# Altium footprint library LABLIB.PcbLib: 35 footprints (part 3 of 3)
Each footprint in its own frame and in the unit in brackets; x right, y up, seen from the top. Pads: shape width x height; smd on the part's side, far side on the other; paste and mask are expansions set on the pad; w line width, h text height; cw(c..) or ccw(c..) is an arc to the next point about the centre after c.
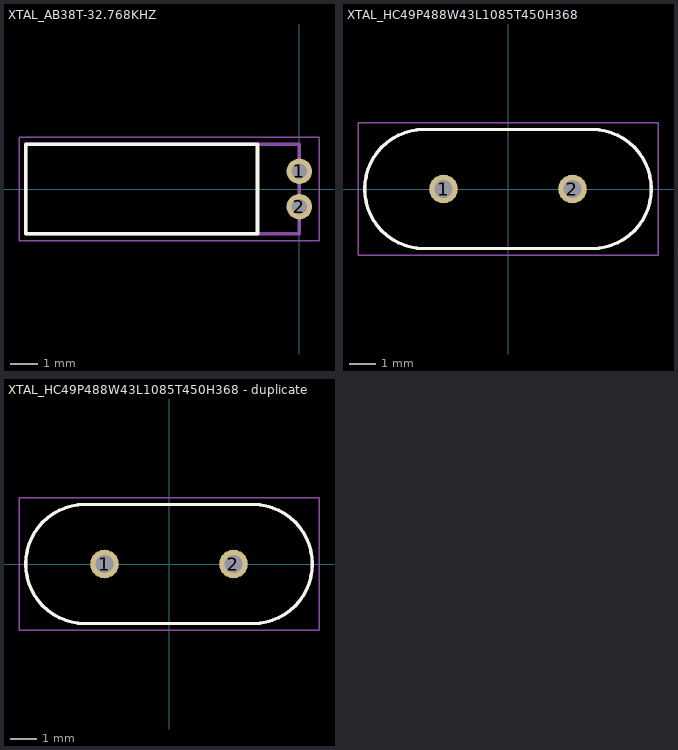
[diagram p2: the footprints below, top view; thin cyan lines are the x and y axes]

## XTAL_AB38T-32.768KHZ [mm]
height 3.2
pads (2):
  round 0.91 hole 0.56: 1(0,0.635) 2(0,-0.635)
Top Overlay:
  lines w0.127: -9.8,-1.6 -1.5,-1.6 -1.5,1.6 -9.8,1.6 -9.8,-1.6
Mechanical 13:
  lines w0.127: -9.8,-1.6 0,-1.6 0,1.6 -9.8,1.6 -9.8,-1.6
Mechanical 15:
  lines w0.05: -10.05,-1.85 0.705,-1.85 0.705,1.85 -10.05,1.85 -10.05,-1.85
3D body "step_temp.STEP": height 8.3, standoff -9, extent -1.6,-1.588 1.6,1.588

## XTAL_HC49P488W43L1085T450H368 [mm]
height 3.68
pads (2):
  round 1.08 hole 0.68: 1(-2.44,0) 2(2.44,0)
Top Overlay:
  lines w0.127: -5.425,0 ccw(c-3.175,0) -3.175,-2.25 3.175,-2.25 ccw(c3.175,0) 5.425,0 ccw(c3.175,0) 3.175,2.25 -3.175,2.25 ccw(c-3.175,0) -5.425,0
Mechanical 13:
  lines w0.127: -5.425,0 ccw(c-3.175,0) -3.175,-2.25 3.175,-2.25 ccw(c3.175,0) 5.425,0 ccw(c3.175,0) 3.175,2.25 -3.175,2.25 ccw(c-3.175,0) -5.425,0
Mechanical 15:
  lines w0.05: -5.675,-2.5 5.675,-2.5 5.675,2.5 -5.675,2.5 -5.675,-2.5
3D body "step_temp.STEP": height 3.68, standoff -12.7, extent -5.425,-2.25 5.425,2.25

## XTAL_HC49P488W43L1085T450H368 - duplicate [mm]
height 3.68
pads (2):
  round 1.08 hole 0.68: 1(-2.44,0) 2(2.44,0)
Top Overlay:
  lines w0.127: -5.425,0 cw(c-3.175,0) -3.175,2.25 3.175,2.25 cw(c3.175,0) 5.425,0 cw(c3.175,0) 3.175,-2.25 -3.175,-2.25 cw(c-3.175,0) -5.425,0
Mechanical 13:
  lines w0.127: -5.425,0 cw(c-3.175,0) -3.175,2.25 3.175,2.25 cw(c3.175,0) 5.425,0 cw(c3.175,0) 3.175,-2.25 -3.175,-2.25 cw(c-3.175,0) -5.425,0
Mechanical 15:
  lines w0.05: -5.675,-2.5 -5.675,2.5 5.675,2.5 5.675,-2.5 -5.675,-2.5
3D body "step_temp.STEP": height 3.68, standoff -12.7, extent -5.425,-2.25 5.425,2.25